# Altium footprint library BC8SATEV1.01.PcbLib: 63 footprints (part 4 of 4)
Each footprint in its own frame and in the unit in brackets; x right, y up, seen from the top. Pads: shape width x height; smd on the part's side, far side on the other; paste and mask are expansions set on the pad; w line width, h text height; cw(c..) or ccw(c..) is an arc to the next point about the centre after c.
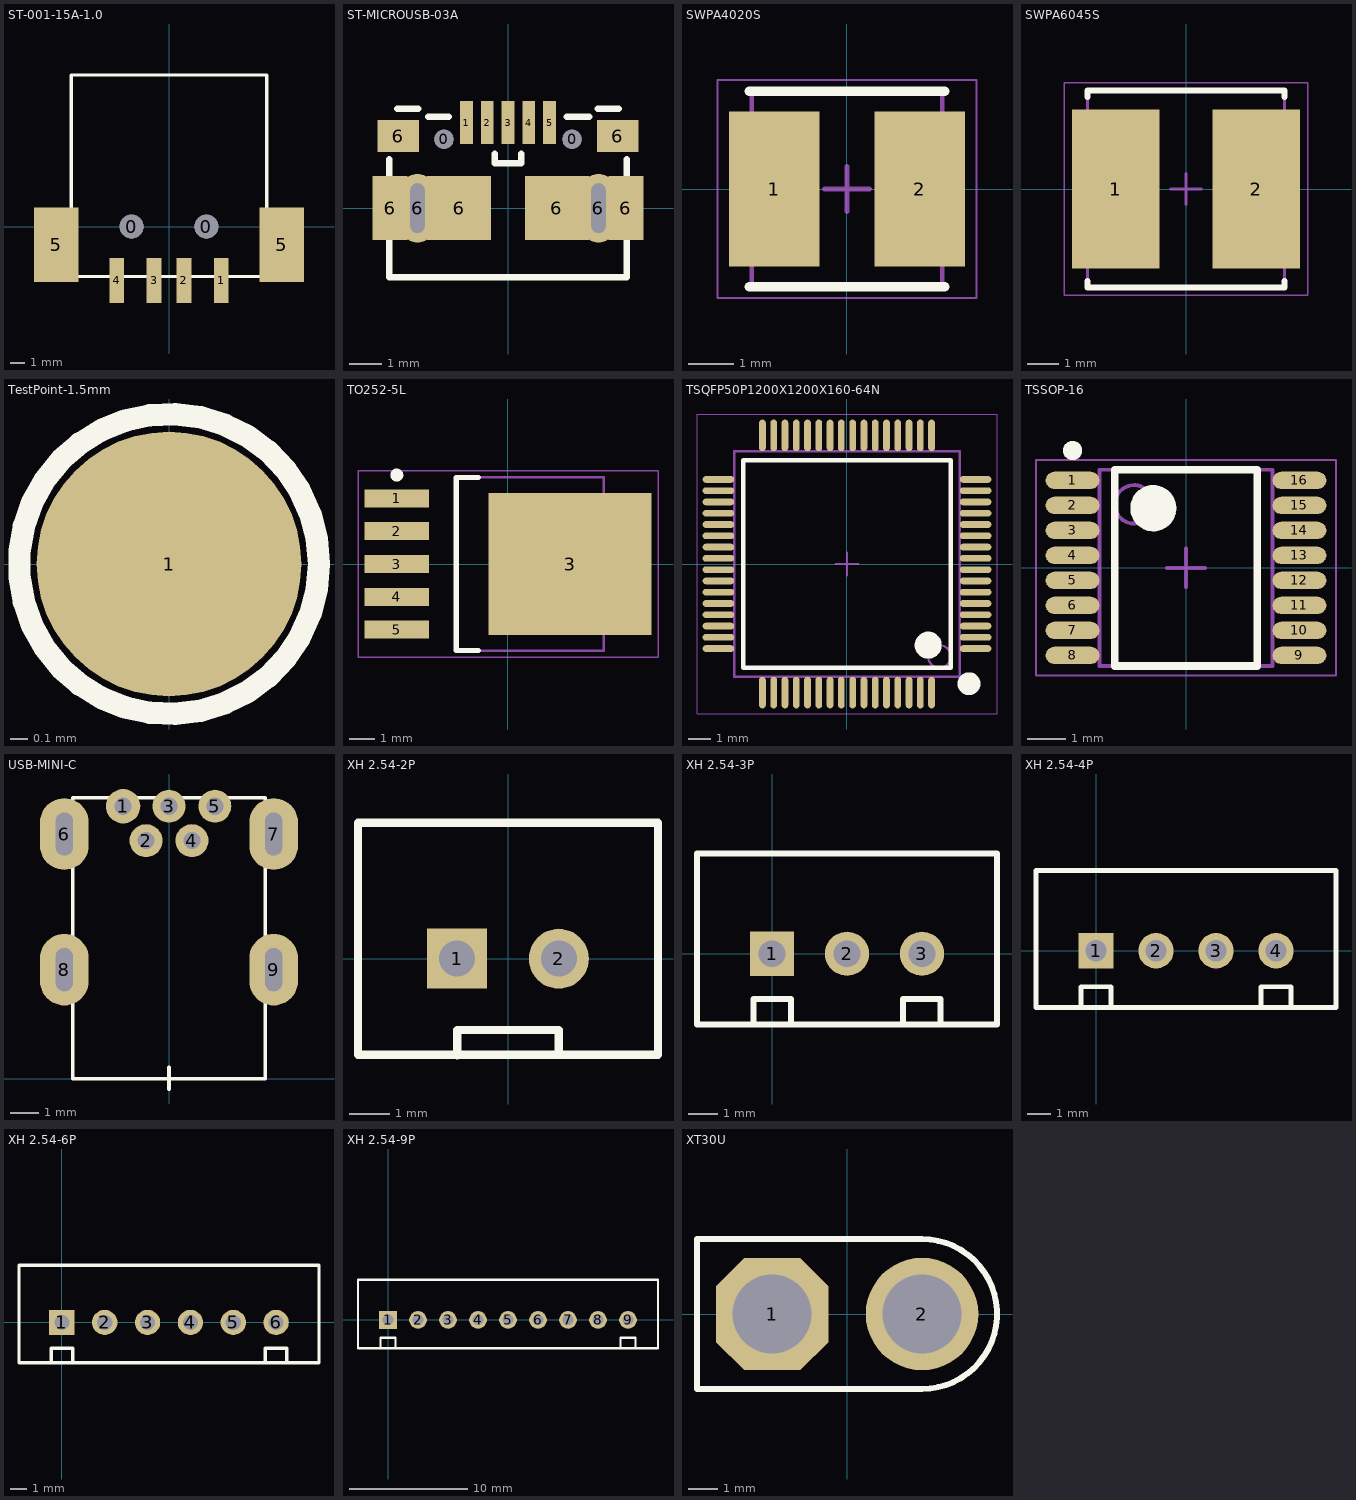
[diagram p3: the footprints below, top view; thin cyan lines are the x and y axes]

## ST-001-15A-1.0 [mm]
height 0.7
pads (8):
  round 1.6 hole 1.6 unplated: 0(-2.5,0) 0(2.5,0)
  rect 1x3 smd: 1(3.5,-3.6) 2(1,-3.6) 3(-1,-3.6) 4(-3.5,-3.6)
  rect 3x5 smd: 5(-7.55,-1.2) 5(7.55,-1.2)
Top Overlay:
  lines w0.203: -6.55,-3.35 6.55,-3.35 6.55,10.15 -6.55,10.15 -6.55,-3.35

## ST-MICROUSB-03A [mm]
pads (15):
  round 0.6 hole 0.6 unplated paste-2.54 mask-2.54: 0(-2,2.15) 0(2,2.15)
  rect 0.4x1.35 smd: 1(-1.3,2.675) 2(-0.65,2.675) 3(0,2.675) 4(0.65,2.675) 5(1.3,2.675)
  rect 1.1x2 smd: 6(-3.683,0) 6(3.683,0)
  rect 1.3x1 smd: 6(-3.429,2.25) 6(3.429,2.25)
  oval 1.05x2.15 hole 0.45 slot 1.55 at 90 deg: 6(-2.825,0) 6(2.825,0)
  rect 2x2 smd: 6(-1.524,0) 6(1.524,0)
Top Overlay:
  lines w0.203: -3.7,1.524 -3.7,-2.15 3.7,-2.15 3.7,1.524 ; -3.45,3.1 -2.8,3.1 ; -2.484,2.85 -1.849,2.85 ; -0.41,1.7 -0.41,1.4 0.41,1.4 0.41,1.7 ; 1.834,2.85 2.54,2.85 ; 2.8,3.1 3.45,3.1
3D body "小USB接口.stp": height 2.36, standoff -0.79, extent -3.7,-2.15 3.7,3.1

## SWPA4020S [mm] "Molded Inductor, 2-Leads, Body 4.00x4.00mm, IPC Medium Density"
height 2
pads (2):
  rect 2x3.4 smd: 1(-1.6,0) 2(1.6,0)
Top Overlay:
  lines w0.2: -2.15,-2.15 2.15,-2.15 ; -2.15,2.15 2.15,2.15
Mechanical 13:
  lines w0.1: -2.1,-2.1 2.1,-2.1 2.1,2.1 -2.1,2.1 -2.1,-2.1
Mechanical 15:
  lines w0.05: -2.85,-2.4 2.85,-2.4 2.85,2.4 -2.85,2.4 -2.85,-2.4
  lines w0.1: -0.5,0 0.5,0 ; 0,-0.5 0,0.5
3D body "SWPA4020S.step": height 2, standoff 0, extent -2.32,-2.1 2.32,2.1

## SWPA6045S [mm] "Molded Inductor, 2-Leads, Body 6.00x6.00mm, IPC Medium Density"
height 4.5
pads (2):
  rect 2.8x5.1 smd: 1(-2.25,0) 2(2.25,0)
Top Overlay:
  lines w0.2: -3.15,-2.95 -3.15,-3.15 3.15,-3.15 3.15,-2.95 ; -3.15,2.95 -3.15,3.15 3.15,3.15 3.15,2.95
Mechanical 13:
  lines w0.1: -3.15,-3.15 3.15,-3.15 3.15,3.15 -3.15,3.15 -3.15,-3.15
Mechanical 15:
  lines w0.05: -3.9,-3.4 3.9,-3.4 3.9,3.4 -3.9,3.4 -3.9,-3.4
  lines w0.1: -0.5,0 0.5,0 ; 0,-0.5 0,0.5
3D body "SWPA6045S.step": height 4.5, standoff 0, extent -3.37,-3.15 3.37,3.15

## TestPoint-1.5mm [mm]
pads (1):
  round 1.5 smd paste-3 mask+0: 1(0,0)
Top Overlay:
  circle w0.127: c0,0 r0.85

## TO252-5L [mm] "D-PAK, 6-Pads, Body 5.95x6.71mm (max), IPC Medium Density"
height 2.5
pads (6):
  rect 2.5x0.7 smd: 1(-4.3,2.54) 2(-4.3,1.27) 3(-4.3,0) 4(-4.3,-1.27) 5(-4.3,-2.54)
  rect 6.3x5.5 smd: 3(2.4,0)
Top Overlay:
  circle w0.25: c-4.3,3.44 r0.125
  lines w0.2: -1.15,-3.35 -2,-3.35 -2,3.35 -1.15,3.35
Mechanical 13:
  lines w0.1: -2,-3.35 -2,3.35 3.7,3.35 3.7,-3.35 -2,-3.35
Mechanical 15:
  lines w0.05: -5.8,-3.6 -5.8,3.6 5.8,3.6 5.8,-3.6 -5.8,-3.6
  lines w0.1: -0.5,0 0.5,0 ; 0,-0.5 0,0.5
3D body "TO252-5L.step": height 2.55, standoff 0, extent -5.1,-3.35 5.1,3.35

## TSQFP50P1200X1200X160-64N [mm]
height 0.65
pads (64):
  oval 1.4x0.3 smd: 1(5.7,-3.75) 2(5.7,-3.25) 3(5.7,-2.75) 4(5.7,-2.25) 5(5.7,-1.75) 6(5.7,-1.25) 7(5.7,-0.75) 8(5.7,-0.25) 9(5.7,0.25) 10(5.7,0.75) 11(5.7,1.25) 12(5.7,1.75) 13(5.7,2.25) 14(5.7,2.75) 15(5.7,3.25) 16(5.7,3.75) 33(-5.7,3.75) 34(-5.7,3.25) 35(-5.7,2.75) 36(-5.7,2.25) 37(-5.7,1.75) 38(-5.7,1.25) 39(-5.7,0.75) 40(-5.7,0.25) 41(-5.7,-0.25) 42(-5.7,-0.75) 43(-5.7,-1.25) 44(-5.7,-1.75) 45(-5.7,-2.25) 46(-5.7,-2.75) 47(-5.7,-3.25) 48(-5.7,-3.75)
  oval 0.3x1.4 smd: 17(3.75,5.7) 18(3.25,5.7) 19(2.75,5.7) 20(2.25,5.7) 21(1.75,5.7) 22(1.25,5.7) 23(0.75,5.7) 24(0.25,5.7) 25(-0.25,5.7) 26(-0.75,5.7) 27(-1.25,5.7) 28(-1.75,5.7) 29(-2.25,5.7) 30(-2.75,5.7) 31(-3.25,5.7) 32(-3.75,5.7) 49(-3.75,-5.7) 50(-3.25,-5.7) 51(-2.75,-5.7) 52(-2.25,-5.7) 53(-1.75,-5.7) 54(-1.25,-5.7) 55(-0.75,-5.7) 56(-0.25,-5.7) 57(0.25,-5.7) 58(0.75,-5.7) 59(1.25,-5.7) 60(1.75,-5.7) 61(2.25,-5.7) 62(2.75,-5.7) 63(3.25,-5.7) 64(3.75,-5.7)
Top Overlay:
  circle w0.6: c3.6,-3.6 r0.3
  circle w0.762: c5.406,-5.307 r0.125
  lines w0.2: -4.6,-4.6 4.6,-4.6 4.6,4.6 -4.6,4.6 -4.6,-4.6
Mechanical 13:
  circle w0.1: c4.1,-4.1 r0.5
  lines w0.1: -5,-5 5,-5 5,5 -5,5 -5,-5
Mechanical 15:
  lines w0.05: -6.65,-6.65 6.65,-6.65 6.65,6.65 -6.65,6.65 -6.65,-6.65
  lines w0.1: -0.5,0 0.5,0 ; 0,-0.5 0,0.5
3D body "TSQFP50P1200X1200X160-64N.step": height 1.6, standoff 0, extent -6,-6 6,6

## TSSOP-16 [mm]
pads (16):
  oval 1.4x0.45 smd: 1(-2.95,2.275) 2(-2.95,1.625) 3(-2.95,0.975) 4(-2.95,0.325) 5(-2.95,-0.325) 6(-2.95,-0.975) 7(-2.95,-1.625) 8(-2.95,-2.275) 9(2.95,-2.275) 10(2.95,-1.625) 11(2.95,-0.975) 12(2.95,-0.325) 13(2.95,0.325) 14(2.95,0.975) 15(2.95,1.625) 16(2.95,2.275)
Top Overlay:
  circle w0.6: c-0.85,1.55 r0.3
  circle w0.25: c-2.95,3.05 r0.125
  lines w0.2: -1.85,-2.55 1.85,-2.55 1.85,2.55 -1.85,2.55 -1.85,-2.55
Mechanical 13:
  circle w0.1: c-1.35,1.65 r0.5
  lines w0.1: -2.25,-2.55 2.25,-2.55 2.25,2.55 -2.25,2.55 -2.25,-2.55
Mechanical 15:
  lines w0.05: -3.9,-2.8 3.9,-2.8 3.9,2.8 -3.9,2.8 -3.9,-2.8
  lines w0.1: -0.5,0 0.5,0 ; 0,-0.5 0,0.5
3D body: height 1.2, standoff 0.25, extent -2.25,-2.55 2.25,2.55

## USB-MINI-C [mm]
pads (9):
  round 1.2 hole 0.6: 1(-1.6,9.5)
  round 1.15 hole 0.6: 2(-0.8,8.3) 3(0,9.5) 4(0.8,8.3) 5(1.6,9.5)
  oval 1.7x2.5 hole 0.6 slot 1.5 at 90 deg: 6(-3.65,8.53) 7(3.65,8.53) 8(-3.65,3.8) 9(3.65,3.8)
Top Overlay:
  lines w0.127: 0,-0.36 0,0.402 ; -3.35,0 -3.35,9.8 3.35,9.8 3.35,0 -3.35,0

## XH 2.54-2P [mm]
pads (2):
  rect 1.5x1.5 hole 0.9: 1(-1.27,0)
  round 1.5 hole 0.9: 2(1.27,0)
Top Overlay:
  lines w0.203: -1.27,-2.413 -1.27,-1.778 1.27,-1.778 1.27,-2.4 ; -3.75,-2.4 3.75,-2.4 3.75,3.4 -3.75,3.4 -3.75,-2.4
3D body: height 7, standoff 0, extent -3.75,-2.4 3.75,3.4

## XH 2.54-3P [mm]
pads (3):
  rect 1.5x1.5 hole 0.9: 1(0,0)
  round 1.5 hole 0.9: 2(2.54,0) 3(5.08,0)
Top Overlay:
  lines w0.203: -0.635,-2.4 -0.635,-1.524 0.635,-1.524 0.635,-2.4 ; 4.445,-2.4 4.445,-1.524 5.715,-1.524 5.715,-2.4 ; -2.54,-2.4 7.62,-2.4 7.62,3.4 -2.54,3.4 -2.54,-2.4
3D body: height 7, standoff 0, extent -2.54,-2.4 7.62,3.4

## XH 2.54-4P [mm]
pads (4):
  rect 1.5x1.5 hole 0.9: 1(0,0)
  round 1.5 hole 0.9: 2(2.54,0) 3(5.08,0) 4(7.62,0)
Top Overlay:
  lines w0.203: -0.635,-2.4 -0.635,-1.524 0.635,-1.524 0.635,-2.4 ; 6.985,-2.4 6.985,-1.524 8.255,-1.524 8.255,-2.4 ; -2.54,-2.4 -2.54,3.4 10.16,3.4 10.16,-2.4 -2.54,-2.4
3D body: height 7, standoff 0, extent -2.54,-2.4 10.16,3.4

## XH 2.54-6P [mm]
pads (6):
  rect 1.5x1.5 hole 0.9: 1(0,0)
  round 1.5 hole 0.9: 2(2.54,0) 3(5.08,0) 4(7.62,0) 5(10.16,0) 6(12.7,0)
Top Overlay:
  lines w0.203: -0.635,-2.4 -0.635,-1.524 0.635,-1.524 0.635,-2.4 ; 12.065,-2.4 12.065,-1.524 13.335,-1.524 13.335,-2.4 ; -2.54,-2.4 15.24,-2.4 15.24,3.4 -2.54,3.4 -2.54,-2.4
3D body: height 7, standoff 0, extent -2.54,-2.4 15.24,3.4

## XH 2.54-9P [mm]
pads (9):
  rect 1.5x1.5 hole 0.9: 1(0,0)
  round 1.5 hole 0.9: 2(2.54,0) 3(5.08,0) 4(7.62,0) 5(10.16,0) 6(12.7,0) 7(15.24,0) 8(17.78,0) 9(20.32,0)
Top Overlay:
  lines w0.203: -0.635,-2.4 -0.635,-1.524 0.635,-1.524 0.635,-2.4 ; 19.685,-2.4 19.685,-1.524 20.955,-1.524 20.955,-2.4 ; -2.54,-2.4 22.86,-2.4 22.86,3.4 -2.54,3.4 -2.54,-2.4
3D body: height 7, standoff 0, extent -2.54,-2.4 22.86,3.4

## XT30U [mil]
pads (2):
  oct 150x150 hole 105: 1(-100,0)
  round 150 hole 105: 2(100,0)
Top Overlay:
  lines w8: -200,-100 100,-100 ccw(c100,0) 100,100 -200,100 -200,-100
3D body: height 425, standoff 0, extent 0,-99.99 200,100.01
3D body: height 425, standoff 0, extent -200,-100 100,100.01